# Altium footprint library Radxa ROCK3 CM.PcbLib: 1 footprints
Each footprint in its own frame and in the unit in brackets; x right, y up, seen from the top. Pads: shape width x height; smd on the part's side, far side on the other; paste and mask are expansions set on the pad; w line width, h text height; cw(c..) or ccw(c..) is an arc to the next point about the centre after c.
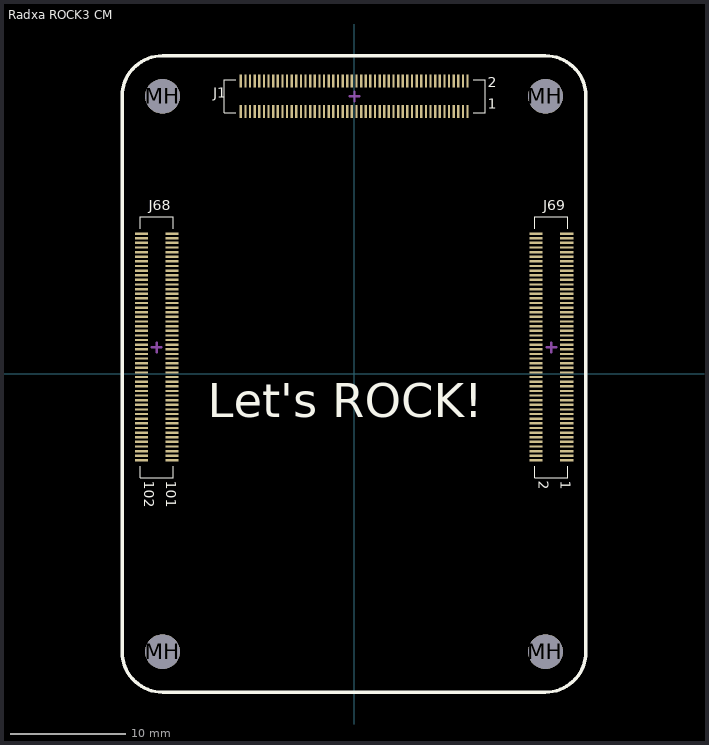
[diagram p0: the footprint, top view; thin cyan lines are the x and y axes]

## Radxa ROCK3 CM [mm]
pads (304):
  rect 1.14x0.2 smd: 1(-18.36,-7.465) 2(-15.72,-7.465) 3(-18.36,-7.065) 4(-15.72,-7.065) 5(-18.36,-6.665) 6(-15.72,-6.665) 7(-18.36,-6.265) 8(-15.72,-6.265) 9(-18.36,-5.865) 10(-15.72,-5.865) 11(-18.36,-5.465) 12(-15.72,-5.465) 13(-18.36,-5.065) 14(-15.72,-5.065) 15(-18.36,-4.665) 16(-15.72,-4.665) 17(-18.36,-4.265) 18(-15.72,-4.265) 19(-18.36,-3.865) 20(-15.72,-3.865) 21(-18.36,-3.465) 22(-15.72,-3.465) 23(-18.36,-3.065) 24(-15.72,-3.065) 25(-18.36,-2.665) 26(-15.72,-2.665) 27(-18.36,-2.265) 28(-15.72,-2.265) 29(-18.36,-1.865) 30(-15.72,-1.865) 31(-18.36,-1.465) 32(-15.72,-1.465) 33(-18.36,-1.065) 34(-15.72,-1.065) 35(-18.36,-0.665) 36(-15.72,-0.665) 37(-18.36,-0.265) 38(-15.72,-0.265) 39(-18.36,0.135) 40(-15.72,0.135) 41(-18.36,0.535) 42(-15.72,0.535) 43(-18.36,0.935) 44(-15.72,0.935) 45(-18.36,1.335) 46(-15.72,1.335) 47(-18.36,1.735) 48(-15.72,1.735) 49(-18.36,2.135) 50(-15.72,2.135) 51(-18.36,2.535) 52(-15.72,2.535) 53(-18.36,2.935) 54(-15.72,2.935) 55(-18.36,3.335) 56(-15.72,3.335) 57(-18.36,3.735) 58(-15.72,3.735) 59(-18.36,4.135) 60(-15.72,4.135) 61(-18.36,4.535) 62(-15.72,4.535) 63(-18.36,4.935) 64(-15.72,4.935) 65(-18.36,5.335) 66(-15.72,5.335) 67(-18.36,5.735) 68(-15.72,5.735) 69(-18.36,6.135) 70(-15.72,6.135) 71(-18.36,6.535) 72(-15.72,6.535) 73(-18.36,6.935) 74(-15.72,6.935) 75(-18.36,7.335) 76(-15.72,7.335) 77(-18.36,7.735) 78(-15.72,7.735) 79(-18.36,8.135) 80(-15.72,8.135) 81(-18.36,8.535) 82(-15.72,8.535) 83(-18.36,8.935) 84(-15.72,8.935) 85(-18.36,9.335) 86(-15.72,9.335) 87(-18.36,9.735) 88(-15.72,9.735) 89(-18.36,10.135) 90(-15.72,10.135) 91(-18.36,10.535) 92(-15.72,10.535) 93(-18.36,10.935) 94(-15.72,10.935) 95(-18.36,11.335) 96(-15.72,11.335) 97(-18.36,11.735) 98(-15.72,11.735) 99(-18.36,12.135) 100(-15.72,12.135) J69/1(15.74,-7.465) J69/2(18.38,-7.465) J69/3(15.74,-7.065) J69/4(18.38,-7.065) J69/5(15.74,-6.665) J69/6(18.38,-6.665) J69/7(15.74,-6.265) J69/8(18.38,-6.265) J69/9(15.74,-5.865) J69/10(18.38,-5.865) J69/11(15.74,-5.465) J69/12(18.38,-5.465) J69/13(15.74,-5.065) J69/14(18.38,-5.065) J69/15(15.74,-4.665) J69/16(18.38,-4.665) J69/17(15.74,-4.265) J69/18(18.38,-4.265) J69/19(15.74,-3.865) J69/20(18.38,-3.865) J69/21(15.74,-3.465) J69/22(18.38,-3.465) J69/23(15.74,-3.065) J69/24(18.38,-3.065) J69/25(15.74,-2.665) J69/26(18.38,-2.665) J69/27(15.74,-2.265) J69/28(18.38,-2.265) J69/29(15.74,-1.865) J69/30(18.38,-1.865) J69/31(15.74,-1.465) J69/32(18.38,-1.465) J69/33(15.74,-1.065) J69/34(18.38,-1.065) J69/35(15.74,-0.665) J69/36(18.38,-0.665) J69/37(15.74,-0.265) J69/38(18.38,-0.265) J69/39(15.74,0.135) J69/40(18.38,0.135) J69/41(15.74,0.535) J69/42(18.38,0.535) J69/43(15.74,0.935) J69/44(18.38,0.935) J69/45(15.74,1.335) J69/46(18.38,1.335) J69/47(15.74,1.735) J69/48(18.38,1.735) J69/49(15.74,2.135) J69/50(18.38,2.135) J69/51(15.74,2.535) J69/52(18.38,2.535) J69/53(15.74,2.935) J69/54(18.38,2.935) J69/55(15.74,3.335) J69/56(18.38,3.335) J69/57(15.74,3.735) J69/58(18.38,3.735) J69/59(15.74,4.135) J69/60(18.38,4.135) J69/61(15.74,4.535) J69/62(18.38,4.535) J69/63(15.74,4.935) J69/64(18.38,4.935) J69/65(15.74,5.335) J69/66(18.38,5.335) J69/67(15.74,5.735) J69/68(18.38,5.735) J69/69(15.74,6.135) J69/70(18.38,6.135) J69/71(15.74,6.535) J69/72(18.38,6.535) J69/73(15.74,6.935) J69/74(18.38,6.935) J69/75(15.74,7.335) J69/76(18.38,7.335) J69/77(15.74,7.735) J69/78(18.38,7.735) J69/79(15.74,8.135) J69/80(18.38,8.135) J69/81(15.74,8.535) J69/82(18.38,8.535) J69/83(15.74,8.935) J69/84(18.38,8.935) J69/85(15.74,9.335) J69/86(18.38,9.335) J69/87(15.74,9.735) J69/88(18.38,9.735) J69/89(15.74,10.135) J69/90(18.38,10.135) J69/91(15.74,10.535) J69/92(18.38,10.535) J69/93(15.74,10.935) J69/94(18.38,10.935) J69/95(15.74,11.335) J69/96(18.38,11.335) J69/97(15.74,11.735) J69/98(18.38,11.735) J69/99(15.74,12.135) J69/100(18.38,12.135)
  rect 0.2x1.14 smd: 1(9.815,22.69) 2(9.815,25.33) 3(9.415,22.69) 4(9.415,25.33) 5(9.015,22.69) 6(9.015,25.33) 7(8.615,22.69) 8(8.615,25.33) 9(8.215,22.69) 10(8.215,25.33) 11(7.815,22.69) 12(7.815,25.33) 13(7.415,22.69) 14(7.415,25.33) 15(7.015,22.69) 16(7.015,25.33) 17(6.615,22.69) 18(6.615,25.33) 19(6.215,22.69) 20(6.215,25.33) 21(5.815,22.69) 22(5.815,25.33) 23(5.415,22.69) 24(5.415,25.33) 25(5.015,22.69) 26(5.015,25.33) 27(4.615,22.69) 28(4.615,25.33) 29(4.215,22.69) 30(4.215,25.33) 31(3.815,22.69) 32(3.815,25.33) 33(3.415,22.69) 34(3.415,25.33) 35(3.015,22.69) 36(3.015,25.33) 37(2.615,22.69) 38(2.615,25.33) 39(2.215,22.69) 40(2.215,25.33) 41(1.815,22.69) 42(1.815,25.33) 43(1.415,22.69) 44(1.415,25.33) 45(1.015,22.69) 46(1.015,25.33) 47(0.615,22.69) 48(0.615,25.33) 49(0.215,22.69) 50(0.215,25.33) 51(-0.185,22.69) 52(-0.185,25.33) 53(-0.585,22.69) 54(-0.585,25.33) 55(-0.985,22.69) 56(-0.985,25.33) 57(-1.385,22.69) 58(-1.385,25.33) 59(-1.785,22.69) 60(-1.785,25.33) 61(-2.185,22.69) 62(-2.185,25.33) 63(-2.585,22.69) 64(-2.585,25.33) 65(-2.985,22.69) 66(-2.985,25.33) 67(-3.385,22.69) 68(-3.385,25.33) 69(-3.785,22.69) 70(-3.785,25.33) 71(-4.185,22.69) 72(-4.185,25.33) 73(-4.585,22.69) 74(-4.585,25.33) 75(-4.985,22.69) 76(-4.985,25.33) 77(-5.385,22.69) 78(-5.385,25.33) 79(-5.785,22.69) 80(-5.785,25.33) 81(-6.185,22.69) 82(-6.185,25.33) 83(-6.585,22.69) 84(-6.585,25.33) 85(-6.985,22.69) 86(-6.985,25.33) 87(-7.385,22.69) 88(-7.385,25.33) 89(-7.785,22.69) 90(-7.785,25.33) 91(-8.185,22.69) 92(-8.185,25.33) 93(-8.585,22.69) 94(-8.585,25.33) 95(-8.985,22.69) 96(-8.985,25.33) 97(-9.385,22.69) 98(-9.385,25.33) 99(-9.785,22.69) 100(-9.785,25.33)
  round 3 hole 3 unplated: MH(-16.55,-24) MH(-16.55,24) MH(16.55,-24) MH(16.55,24)
Top Overlay:
  lines w0.1: -18.47,-7.975 -18.47,-8.975 -15.63,-8.975 -15.63,-7.975 ; -18.47,12.575 -18.47,13.575 -15.63,13.575 -15.63,12.575 ; -10.225,22.58 -11.225,22.58 -11.225,25.42 -10.225,25.42 ; 10.325,22.58 11.325,22.58 11.325,25.42 10.325,25.42 ; 15.63,-7.975 15.63,-8.975 18.47,-8.975 18.47,-7.975 ; 15.63,12.575 15.63,13.575 18.47,13.575 18.47,12.575
  lines w0.3: -20.05,-24 ccw(c-16.55,-24) -16.55,-27.5 16.55,-27.5 ccw(c16.55,-24) 20.05,-24 20.05,24 ccw(c16.55,24) 16.55,27.5 -16.55,27.5 ccw(c-16.55,24) -20.05,24 -20.05,-24
  text "J1" at -12.163,23.565 h1.5
  text "Let's ROCK!" at -12.631,-4.704 h5
  text "1" at 11.575,22.604 h1.5
  text "2" at 11.575,24.5 h1.5
  text "J68" at -17.724,13.846 h1.5
  text "J69" at 16.373,13.846 h1.5
  text "1" at 17.554,-9.225 h1.5
  text "2" at 15.65,-9.225 h1.5
  text "101" at -16.546,-9.225 h1.5
  text "102" at -18.446,-9.225 h1.5
Mechanical 5:
  lines w0.2: -17.47,2.3 -17.05,2.3 ; -17.05,1.88 -17.05,2.3 ; -17.05,2.72 -17.05,2.3 ; -16.63,2.3 -17.05,2.3 ; -0.37,24 0.05,24 ; 0.05,23.58 0.05,24 ; 0.05,24.42 0.05,24 ; 0.47,24 0.05,24 ; 16.63,2.3 17.05,2.3 ; 17.05,1.88 17.05,2.3 ; 17.05,2.72 17.05,2.3 ; 17.47,2.3 17.05,2.3
  lines w0.3: -17.05,2.3 -17.05,2.3 ; -17.05,2.3 -17.05,2.3 ; 17.05,2.3 17.05,2.3 ; 17.05,2.3 17.05,2.3 ; 0.05,24 0.05,24